# EAGLE library part MGM240PB32VNA3 (library MGM240PB32VNA3)
Multiprotocol Modules Wireless bluetooth PCB module, Secure Boot with Root of Trust and Secure Loader(RTSL), 78 MHz, 20 dBm, Source: Datasheet <https://www.silabs.com/documents/public/data-sheets/mgm240p-datasheet.pdf>
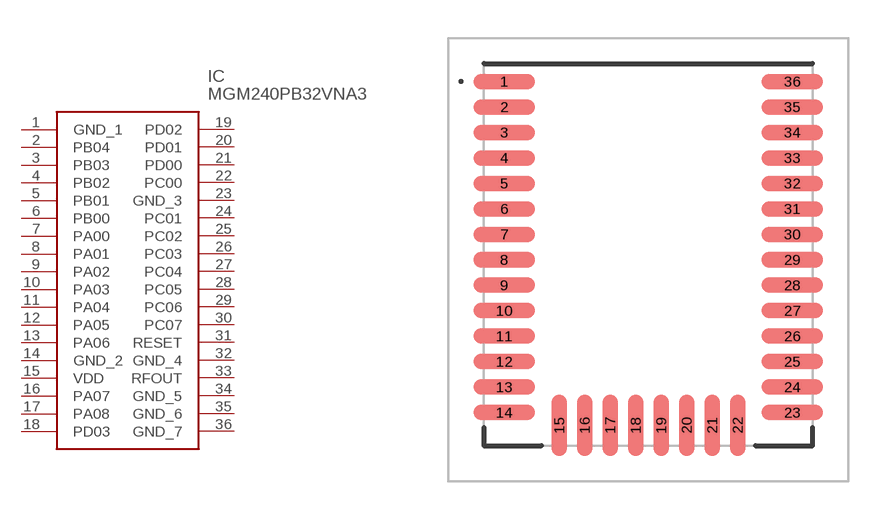
[diagram p0: symbol with the pads of MGM240PB32VNA3; footprint MGM240PB32VNA3]

Designator prefix IC

## MGM240PB32VNA3 (Arrow_Part_Number: MGM240PB32VNA3; Arrow_Price-Stock: https://www.arrow.com/en/products/mgm240pb32vna3/silicon-labs?region=nac; Description: Multiprotocol Modules Wireless bluetooth PCB module, Secure Boot with Root of Trust and Secure Loader(RTSL), 78 MHz, 20 dBm,; Height: 2.35mm; Manufacturer_Name: Silicon Labs; Manufacturer_Part_Number: MGM240PB32VNA3; Mouser_Part_Number: 634-MGM240PB32VNA3; Mouser_Price-Stock: https://www.mouser.co.uk/ProductDetail/Silicon-Labs/MGM240PB32VNA3?qs=vvQtp7zwQdP%252Bnz0yHc66VA%3D%3D)  [MGM240PB32VNA3]
1  GND_1
2  PB04
3  PB03
4  PB02
5  PB01
6  PB00
7  PA00
8  PA01
9  PA02
10  PA03
11  PA04
12  PA05
13  PA06
14  GND_2
15  VDD
16  PA07
17  PA08
18  PD03
19  PD02
20  PD01
21  PD00
22  PC00
23  GND_3
24  PC01
25  PC02
26  PC03
27  PC04
28  PC05
29  PC06
30  PC07
31  RESET
32  GND_4
33  RFOUT
34  GND_5
35  GND_6
36  GND_7

## Footprint MGM240PB32VNA3 (pad centres in mm)
MGM240PB32VNA3-1
smd 2.4 x 0.6: 1 -5.65,6.8; 2 -5.65,5.8; 3 -5.65,4.8; 4 -5.65,3.8; 5 -5.65,2.8; 6 -5.65,1.8; 7 -5.65,0.8; 8 -5.65,-0.2; 9 -5.65,-1.2; 10 -5.65,-2.2; 11 -5.65,-3.2; 12 -5.65,-4.2; 13 -5.65,-5.2; 14 -5.65,-6.2; 23 5.65,-6.2; 24 5.65,-5.2; 25 5.65,-4.2; 26 5.65,-3.2; 27 5.65,-2.2; 28 5.65,-1.2; 29 5.65,-0.2; 30 5.65,0.8; 31 5.65,1.8; 32 5.65,2.8; 33 5.65,3.8; 34 5.65,4.8; 35 5.65,5.8; 36 5.65,6.8
smd 0.6 x 2.4: 15 -3.5,-6.7; 16 -2.5,-6.7; 17 -1.5,-6.7; 18 -0.5,-6.7; 19 0.5,-6.7; 20 1.5,-6.7; 21 2.5,-6.7; 22 3.5,-6.7